# Altium integrated library TI Power Management Linear Regulator Single Channel LDO (0-350mA).IntLib: 1648 symbols (part 48 of 66)
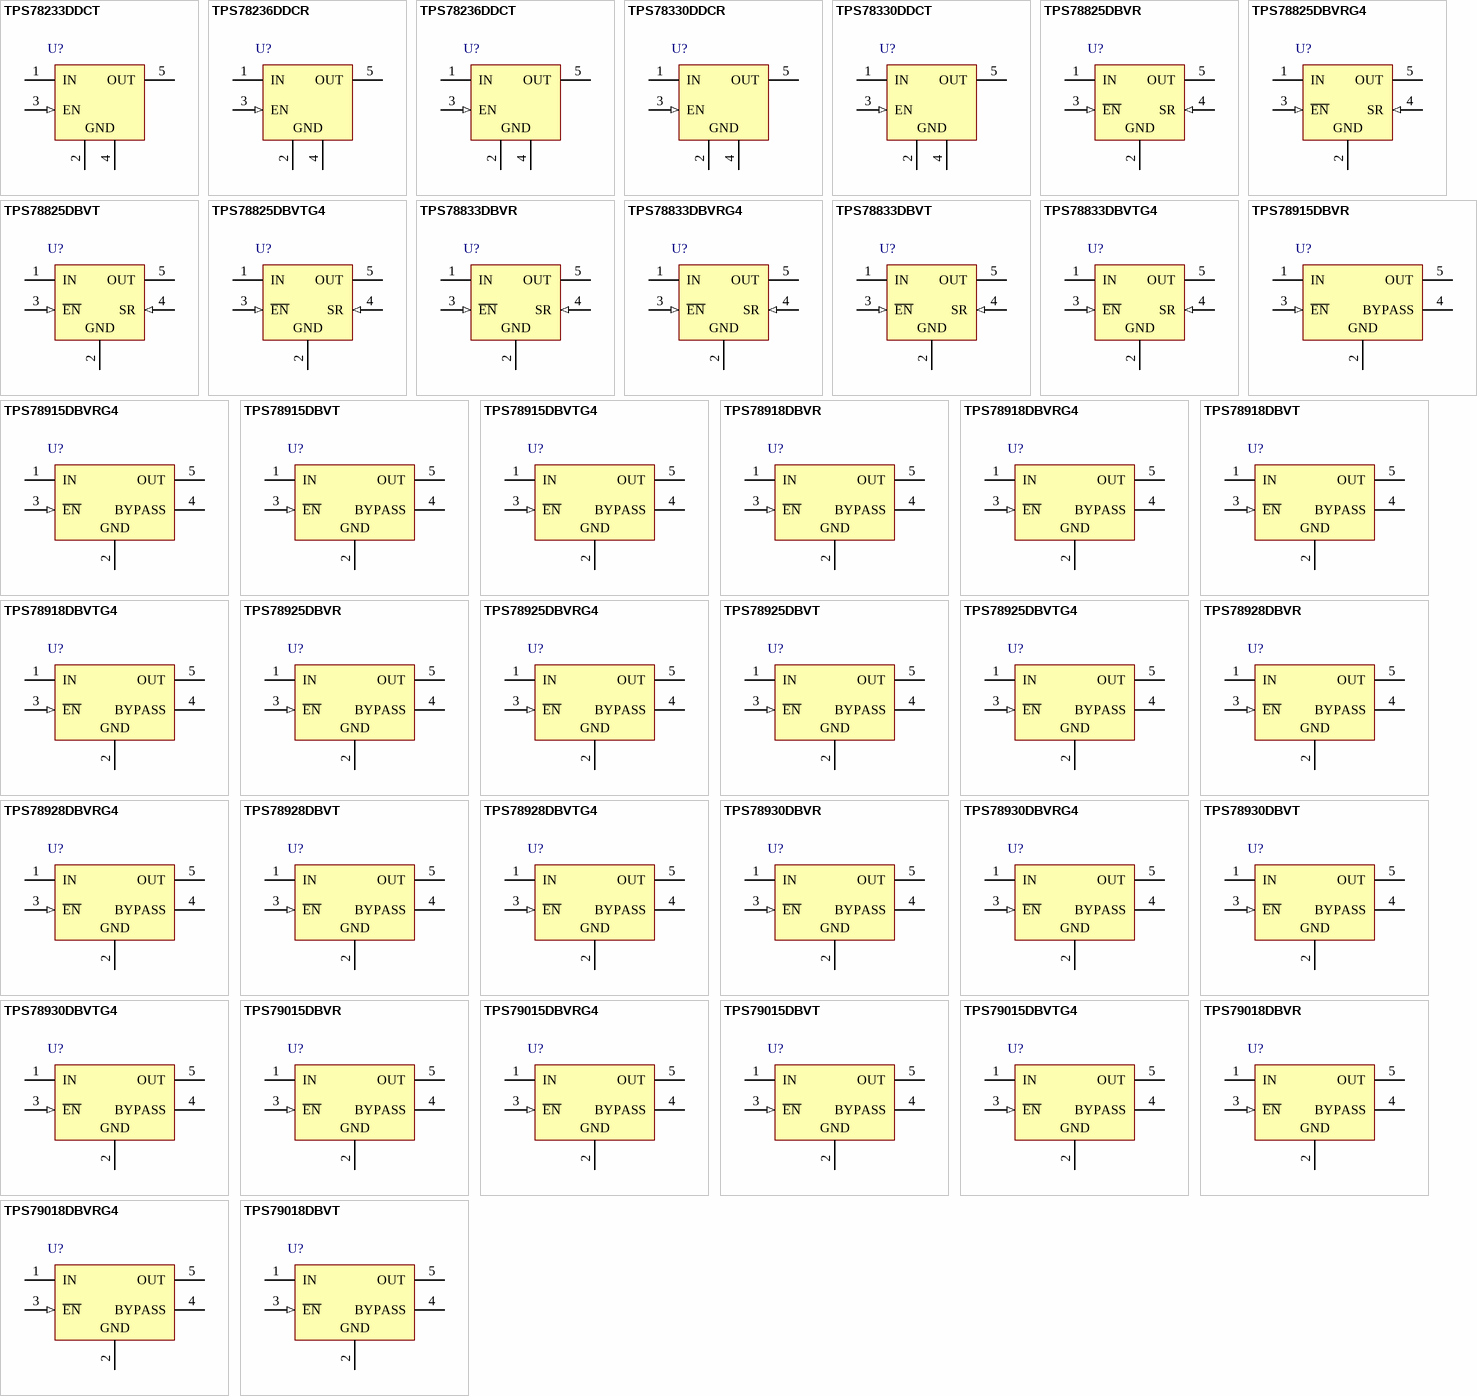
[diagram p89: symbols TPS78233DDCT to TPS79018DBVT]

## TPS78928DBVR
designator U?
Single Output Low Noise LDO, 100 mA, Fixed 2.8 V Output, 2.7 to 10 V Input, with Low IQ, 5-pin SOT-23 (DBV), -40 to 125 degC, Green (RoHS & no Sb/Br); Manufacturer: Texas Instruments; PartNumber: TPS78928DBVR; Fixed Output Options(V): 2.8; Iout(Max)(A): 0.1; Iq(Typ)(mA): 0.02; Rating: Catalog; SubFamily: Single Channel LDO; Vdo(Typ)(mV): 122; Vin(Max)(V): 10; Vin(Min)(V): 2.7; DatasheetVersion: SLVS300A; PackageVersion: 4073253-4/K; PackageReference: DBV5; PackageDescription: 5-Pin Plastic Small Outline, Body 1.60 × 2.90 mm, Pitch 0.95 mm; Supplier 1: Digi-Key; Supplier Part Number 1: 296-8149-2-ND; Supplier 2: Digi-Key; Supplier Part Number 2: 296-8149-1-ND; Supplier 3: Digi-Key; Supplier Part Number 3: 296-8149-6-ND; Supplier 4: Newark; Supplier Part Number 4: 77C1328; Supplier 5: Mouser; Supplier Part Number 5: 595-TPS78928DBVR; Eco-Plan: Green (RoHS & no Sb/Br); Vout Adj(Max)(V): 2.8; Vout Adj(Min)(V): 2.8; Mounting Technology: Surface Mount; Code_JEDEC: MO-178; ComponentLink1Description: Manufacturer URL; ComponentLink1URL: http://www.ti.com/; ComponentLink2Description: Datasheet; ComponentLink2URL: http://www.ti.com/general/docs/lit/getliterature.tsp?genericPartNumber=TPS78928&fileType=pdf; ComponentLink3Description: Package Specification; ComponentLink3URL: http://www.ti.com/litv/pdf/mpds018i
footprint TI-DBV5_N (SOT23, 5-Leads, Body 2.9x1.6mm, Pitch 0.95mm, IPC Medium Density)
footprint TI-DBV5_L (SOT23, 5-Leads, Body 2.9x1.6mm, Pitch 0.95mm, IPC High Density)
footprint TI-DBV5_M (SOT23, 5-Leads, Body 2.9x1.6mm, Pitch 0.95mm, IPC Low Density)
pins: 1 IN (power) "The IN terminal is the input to the device.", 2 GND (power) "Regulator ground", 3 ~{EN} (in) "The E\N\ terminal is an input which enables or shuts down the device. When E\N\ is a logic high, the device will be in shutdown mode. When E\N\ is a logic low, the device will be enabled.", 4 BYPASS "An external bypass capacitor, connected to this terminal, in conjunction with an internal resistor, creates a low-pass filter to further reduce regulator noise.", 5 OUT (power) "The OUT terminal is the regulated output of the device."

## TPS78928DBVRG4
designator U?
Single Output Low Noise LDO, 100 mA, Fixed 2.8 V Output, 2.7 to 10 V Input, with Low IQ, 5-pin SOT-23 (DBV), -40 to 125 degC, Green (RoHS & no Sb/Br); Manufacturer: Texas Instruments; PartNumber: TPS78928DBVRG4; Fixed Output Options(V): 2.8; Iout(Max)(A): 0.1; Iq(Typ)(mA): 0.02; Rating: Catalog; SubFamily: Single Channel LDO; Vdo(Typ)(mV): 122; Vin(Max)(V): 10; Vin(Min)(V): 2.7; DatasheetVersion: SLVS300A; PackageVersion: 4073253-4/K; PackageReference: DBV5; PackageDescription: 5-Pin Plastic Small Outline, Body 1.60 × 2.90 mm, Pitch 0.95 mm; Supplier 1: Digi-Key; Supplier Part Number 1: TPS78928DBVRG4-ND; Supplier 2: Newark; Supplier Part Number 2: 71J8285; Supplier 3: Mouser; Supplier Part Number 3: 595-TPS78928DBVRG4; Eco-Plan: Green (RoHS & no Sb/Br); Vout Adj(Max)(V): 2.8; Vout Adj(Min)(V): 2.8; Mounting Technology: Surface Mount; Code_JEDEC: MO-178; ComponentLink1Description: Manufacturer URL; ComponentLink1URL: http://www.ti.com/; ComponentLink2Description: Datasheet; ComponentLink2URL: http://www.ti.com/general/docs/lit/getliterature.tsp?genericPartNumber=TPS78928&fileType=pdf; ComponentLink3Description: Package Specification; ComponentLink3URL: http://www.ti.com/litv/pdf/mpds018i
footprint TI-DBV5_N (SOT23, 5-Leads, Body 2.9x1.6mm, Pitch 0.95mm, IPC Medium Density)
footprint TI-DBV5_L (SOT23, 5-Leads, Body 2.9x1.6mm, Pitch 0.95mm, IPC High Density)
footprint TI-DBV5_M (SOT23, 5-Leads, Body 2.9x1.6mm, Pitch 0.95mm, IPC Low Density)
pins: 1 IN (power) "The IN terminal is the input to the device.", 2 GND (power) "Regulator ground", 3 ~{EN} (in) "The E\N\ terminal is an input which enables or shuts down the device. When E\N\ is a logic high, the device will be in shutdown mode. When E\N\ is a logic low, the device will be enabled.", 4 BYPASS "An external bypass capacitor, connected to this terminal, in conjunction with an internal resistor, creates a low-pass filter to further reduce regulator noise.", 5 OUT (power) "The OUT terminal is the regulated output of the device."

## TPS78928DBVT
designator U?
Single Output Low Noise LDO, 100 mA, Fixed 2.8 V Output, 2.7 to 10 V Input, with Low IQ, 5-pin SOT-23 (DBV), -40 to 125 degC, Green (RoHS & no Sb/Br); Manufacturer: Texas Instruments; PartNumber: TPS78928DBVT; Fixed Output Options(V): 2.8; Iout(Max)(A): 0.1; Iq(Typ)(mA): 0.02; Rating: Catalog; SubFamily: Single Channel LDO; Vdo(Typ)(mV): 122; Vin(Max)(V): 10; Vin(Min)(V): 2.7; DatasheetVersion: SLVS300A; PackageVersion: 4073253-4/K; PackageReference: DBV5; PackageDescription: 5-Pin Plastic Small Outline, Body 1.60 × 2.90 mm, Pitch 0.95 mm; Supplier 1: Digi-Key; Supplier Part Number 1: 296-32573-2-ND; Supplier 2: Digi-Key; Supplier Part Number 2: 296-32573-1-ND; Supplier 3: Digi-Key; Supplier Part Number 3: 296-32573-6-ND; Supplier 4: Mouser; Supplier Part Number 4: 595-TPS78928DBVT; Eco-Plan: Green (RoHS & no Sb/Br); Vout Adj(Max)(V): 2.8; Vout Adj(Min)(V): 2.8; Mounting Technology: Surface Mount; Code_JEDEC: MO-178; ComponentLink1Description: Manufacturer URL; ComponentLink1URL: http://www.ti.com/; ComponentLink2Description: Datasheet; ComponentLink2URL: http://www.ti.com/general/docs/lit/getliterature.tsp?genericPartNumber=TPS78928&fileType=pdf; ComponentLink3Description: Package Specification; ComponentLink3URL: http://www.ti.com/litv/pdf/mpds018i
footprint TI-DBV5_N (SOT23, 5-Leads, Body 2.9x1.6mm, Pitch 0.95mm, IPC Medium Density)
footprint TI-DBV5_L (SOT23, 5-Leads, Body 2.9x1.6mm, Pitch 0.95mm, IPC High Density)
footprint TI-DBV5_M (SOT23, 5-Leads, Body 2.9x1.6mm, Pitch 0.95mm, IPC Low Density)
pins: 1 IN (power) "The IN terminal is the input to the device.", 2 GND (power) "Regulator ground", 3 ~{EN} (in) "The E\N\ terminal is an input which enables or shuts down the device. When E\N\ is a logic high, the device will be in shutdown mode. When E\N\ is a logic low, the device will be enabled.", 4 BYPASS "An external bypass capacitor, connected to this terminal, in conjunction with an internal resistor, creates a low-pass filter to further reduce regulator noise.", 5 OUT (power) "The OUT terminal is the regulated output of the device."

## TPS78928DBVTG4
designator U?
Single Output Low Noise LDO, 100 mA, Fixed 2.8 V Output, 2.7 to 10 V Input, with Low IQ, 5-pin SOT-23 (DBV), -40 to 125 degC, Green (RoHS & no Sb/Br); Manufacturer: Texas Instruments; PartNumber: TPS78928DBVTG4; Fixed Output Options(V): 2.8; Iout(Max)(A): 0.1; Iq(Typ)(mA): 0.02; Rating: Catalog; SubFamily: Single Channel LDO; Vdo(Typ)(mV): 122; Vin(Max)(V): 10; Vin(Min)(V): 2.7; DatasheetVersion: SLVS300A; PackageVersion: 4073253-4/K; PackageReference: DBV5; PackageDescription: 5-Pin Plastic Small Outline, Body 1.60 × 2.90 mm, Pitch 0.95 mm; Supplier 1: Digi-Key; Supplier Part Number 1: TPS78928DBVTG4-ND; Supplier 2: Mouser; Supplier Part Number 2: 595-TPS78928DBVTG4; Eco-Plan: Green (RoHS & no Sb/Br); Vout Adj(Max)(V): 2.8; Vout Adj(Min)(V): 2.8; Mounting Technology: Surface Mount; Code_JEDEC: MO-178; ComponentLink1Description: Manufacturer URL; ComponentLink1URL: http://www.ti.com/; ComponentLink2Description: Datasheet; ComponentLink2URL: http://www.ti.com/general/docs/lit/getliterature.tsp?genericPartNumber=TPS78928&fileType=pdf; ComponentLink3Description: Package Specification; ComponentLink3URL: http://www.ti.com/litv/pdf/mpds018i
footprint TI-DBV5_N (SOT23, 5-Leads, Body 2.9x1.6mm, Pitch 0.95mm, IPC Medium Density)
footprint TI-DBV5_L (SOT23, 5-Leads, Body 2.9x1.6mm, Pitch 0.95mm, IPC High Density)
footprint TI-DBV5_M (SOT23, 5-Leads, Body 2.9x1.6mm, Pitch 0.95mm, IPC Low Density)
pins: 1 IN (power) "The IN terminal is the input to the device.", 2 GND (power) "Regulator ground", 3 ~{EN} (in) "The E\N\ terminal is an input which enables or shuts down the device. When E\N\ is a logic high, the device will be in shutdown mode. When E\N\ is a logic low, the device will be enabled.", 4 BYPASS "An external bypass capacitor, connected to this terminal, in conjunction with an internal resistor, creates a low-pass filter to further reduce regulator noise.", 5 OUT (power) "The OUT terminal is the regulated output of the device."

## TPS78930DBVR
designator U?
Single Output Low Noise LDO, 100 mA, Fixed 3 V Output, 2.7 to 10 V Input, 5-pin SOT-23 (DBV), -40 to 125 degC, Green (RoHS & no Sb/Br); Manufacturer: Texas Instruments; PartNumber: TPS78930DBVR; Fixed Output Options(V): 3; Iout(Max)(A): 0.1; Iq(Typ)(mA): 0.02; Rating: Catalog; SubFamily: Single Channel LDO; Vdo(Typ)(mV): 115; Vin(Max)(V): 10; Vin(Min)(V): 2.7; DatasheetVersion: SLVS300A; PackageVersion: 4073253-4/K; PackageReference: DBV5; PackageDescription: 5-Pin Plastic Small Outline, Body 1.60 × 2.90 mm, Pitch 0.95 mm; Supplier 1: Digi-Key; Supplier Part Number 1: 296-8150-2-ND; Supplier 2: Digi-Key; Supplier Part Number 2: 296-8150-1-ND; Supplier 3: Digi-Key; Supplier Part Number 3: 296-8150-6-ND; Supplier 4: Newark; Supplier Part Number 4: 77C1330; Supplier 5: Mouser; Supplier Part Number 5: 595-TPS78930DBVR; Eco-Plan: Green (RoHS & no Sb/Br); Vout Adj(Max)(V): 3; Vout Adj(Min)(V): 3; Mounting Technology: Surface Mount; Code_JEDEC: MO-178; ComponentLink1Description: Manufacturer URL; ComponentLink1URL: http://www.ti.com/; ComponentLink2Description: Datasheet; ComponentLink2URL: http://www.ti.com/general/docs/lit/getliterature.tsp?genericPartNumber=TPS78930&fileType=pdf; ComponentLink3Description: Package Specification; ComponentLink3URL: http://www.ti.com/litv/pdf/mpds018i
footprint TI-DBV5_N (SOT23, 5-Leads, Body 2.9x1.6mm, Pitch 0.95mm, IPC Medium Density)
footprint TI-DBV5_L (SOT23, 5-Leads, Body 2.9x1.6mm, Pitch 0.95mm, IPC High Density)
footprint TI-DBV5_M (SOT23, 5-Leads, Body 2.9x1.6mm, Pitch 0.95mm, IPC Low Density)
pins: 1 IN (power) "The IN terminal is the input to the device.", 2 GND (power) "Regulator ground", 3 ~{EN} (in) "The E\N\ terminal is an input which enables or shuts down the device. When E\N\ is a logic high, the device will be in shutdown mode. When E\N\ is a logic low, the device will be enabled.", 4 BYPASS "An external bypass capacitor, connected to this terminal, in conjunction with an internal resistor, creates a low-pass filter to further reduce regulator noise.", 5 OUT (power) "The OUT terminal is the regulated output of the device."

## TPS78930DBVRG4
designator U?
Single Output Low Noise LDO, 100 mA, Fixed 3 V Output, 2.7 to 10 V Input, 5-pin SOT-23 (DBV), -40 to 125 degC, Green (RoHS & no Sb/Br); Manufacturer: Texas Instruments; PartNumber: TPS78930DBVRG4; Fixed Output Options(V): 3; Iout(Max)(A): 0.1; Iq(Typ)(mA): 0.02; Rating: Catalog; SubFamily: Single Channel LDO; Vdo(Typ)(mV): 115; Vin(Max)(V): 10; Vin(Min)(V): 2.7; DatasheetVersion: SLVS300A; PackageVersion: 4073253-4/K; PackageReference: DBV5; PackageDescription: 5-Pin Plastic Small Outline, Body 1.60 × 2.90 mm, Pitch 0.95 mm; Supplier 1: Digi-Key; Supplier Part Number 1: TPS78930DBVRG4-ND; Supplier 2: Mouser; Supplier Part Number 2: 595-TPS78930DBVRG4; Eco-Plan: Green (RoHS & no Sb/Br); Vout Adj(Max)(V): 3; Vout Adj(Min)(V): 3; Mounting Technology: Surface Mount; Code_JEDEC: MO-178; ComponentLink1Description: Manufacturer URL; ComponentLink1URL: http://www.ti.com/; ComponentLink2Description: Datasheet; ComponentLink2URL: http://www.ti.com/general/docs/lit/getliterature.tsp?genericPartNumber=TPS78930&fileType=pdf; ComponentLink3Description: Package Specification; ComponentLink3URL: http://www.ti.com/litv/pdf/mpds018i
footprint TI-DBV5_N (SOT23, 5-Leads, Body 2.9x1.6mm, Pitch 0.95mm, IPC Medium Density)
footprint TI-DBV5_L (SOT23, 5-Leads, Body 2.9x1.6mm, Pitch 0.95mm, IPC High Density)
footprint TI-DBV5_M (SOT23, 5-Leads, Body 2.9x1.6mm, Pitch 0.95mm, IPC Low Density)
pins: 1 IN (power) "The IN terminal is the input to the device.", 2 GND (power) "Regulator ground", 3 ~{EN} (in) "The E\N\ terminal is an input which enables or shuts down the device. When E\N\ is a logic high, the device will be in shutdown mode. When E\N\ is a logic low, the device will be enabled.", 4 BYPASS "An external bypass capacitor, connected to this terminal, in conjunction with an internal resistor, creates a low-pass filter to further reduce regulator noise.", 5 OUT (power) "The OUT terminal is the regulated output of the device."

## TPS78930DBVT
designator U?
Single Output Low Noise LDO, 100 mA, Fixed 3 V Output, 2.7 to 10 V Input, 5-pin SOT-23 (DBV), -40 to 125 degC, Green (RoHS & no Sb/Br); Manufacturer: Texas Instruments; PartNumber: TPS78930DBVT; Fixed Output Options(V): 3; Iout(Max)(A): 0.1; Iq(Typ)(mA): 0.02; Rating: Catalog; SubFamily: Single Channel LDO; Vdo(Typ)(mV): 115; Vin(Max)(V): 10; Vin(Min)(V): 2.7; DatasheetVersion: SLVS300A; PackageVersion: 4073253-4/K; PackageReference: DBV5; PackageDescription: 5-Pin Plastic Small Outline, Body 1.60 × 2.90 mm, Pitch 0.95 mm; Supplier 1: Digi-Key; Supplier Part Number 1: 296-27093-2-ND; Supplier 2: Digi-Key; Supplier Part Number 2: 296-27093-1-ND; Supplier 3: Digi-Key; Supplier Part Number 3: 296-27093-6-ND; Supplier 4: Farnell; Supplier Part Number 4: 8461732RL; Supplier 5: Farnell; Supplier Part Number 5: 8461732; Supplier 6: Newark; Supplier Part Number 6: 38K8855; Supplier 7: Newark; Supplier Part Number 7: 77C1331; Supplier 8: Mouser; Supplier Part Number 8: 595-TPS78930DBVT; Eco-Plan: Green (RoHS & no Sb/Br); Vout Adj(Max)(V): 3; Vout Adj(Min)(V): 3; Mounting Technology: Surface Mount; Code_JEDEC: MO-178; ComponentLink1Description: Manufacturer URL; ComponentLink1URL: http://www.ti.com/; ComponentLink2Description: Datasheet; ComponentLink2URL: http://www.ti.com/general/docs/lit/getliterature.tsp?genericPartNumber=TPS78930&fileType=pdf; ComponentLink3Description: Package Specification; ComponentLink3URL: http://www.ti.com/litv/pdf/mpds018i
footprint TI-DBV5_N (SOT23, 5-Leads, Body 2.9x1.6mm, Pitch 0.95mm, IPC Medium Density)
footprint TI-DBV5_L (SOT23, 5-Leads, Body 2.9x1.6mm, Pitch 0.95mm, IPC High Density)
footprint TI-DBV5_M (SOT23, 5-Leads, Body 2.9x1.6mm, Pitch 0.95mm, IPC Low Density)
pins: 1 IN (power) "The IN terminal is the input to the device.", 2 GND (power) "Regulator ground", 3 ~{EN} (in) "The E\N\ terminal is an input which enables or shuts down the device. When E\N\ is a logic high, the device will be in shutdown mode. When E\N\ is a logic low, the device will be enabled.", 4 BYPASS "An external bypass capacitor, connected to this terminal, in conjunction with an internal resistor, creates a low-pass filter to further reduce regulator noise.", 5 OUT (power) "The OUT terminal is the regulated output of the device."

## TPS78930DBVTG4
designator U?
Single Output Low Noise LDO, 100 mA, Fixed 3 V Output, 2.7 to 10 V Input, 5-pin SOT-23 (DBV), -40 to 125 degC, Green (RoHS & no Sb/Br); Manufacturer: Texas Instruments; PartNumber: TPS78930DBVTG4; Fixed Output Options(V): 3; Iout(Max)(A): 0.1; Iq(Typ)(mA): 0.02; Rating: Catalog; SubFamily: Single Channel LDO; Vdo(Typ)(mV): 115; Vin(Max)(V): 10; Vin(Min)(V): 2.7; DatasheetVersion: SLVS300A; PackageVersion: 4073253-4/K; PackageReference: DBV5; PackageDescription: 5-Pin Plastic Small Outline, Body 1.60 × 2.90 mm, Pitch 0.95 mm; Supplier 1: Digi-Key; Supplier Part Number 1: TPS78930DBVTG4-ND; Supplier 2: Mouser; Supplier Part Number 2: 595-TPS78930DBVTG4; Eco-Plan: Green (RoHS & no Sb/Br); Vout Adj(Max)(V): 3; Vout Adj(Min)(V): 3; Mounting Technology: Surface Mount; Code_JEDEC: MO-178; ComponentLink1Description: Manufacturer URL; ComponentLink1URL: http://www.ti.com/; ComponentLink2Description: Datasheet; ComponentLink2URL: http://www.ti.com/general/docs/lit/getliterature.tsp?genericPartNumber=TPS78930&fileType=pdf; ComponentLink3Description: Package Specification; ComponentLink3URL: http://www.ti.com/litv/pdf/mpds018i
footprint TI-DBV5_N (SOT23, 5-Leads, Body 2.9x1.6mm, Pitch 0.95mm, IPC Medium Density)
footprint TI-DBV5_L (SOT23, 5-Leads, Body 2.9x1.6mm, Pitch 0.95mm, IPC High Density)
footprint TI-DBV5_M (SOT23, 5-Leads, Body 2.9x1.6mm, Pitch 0.95mm, IPC Low Density)
pins: 1 IN (power) "The IN terminal is the input to the device.", 2 GND (power) "Regulator ground", 3 ~{EN} (in) "The E\N\ terminal is an input which enables or shuts down the device. When E\N\ is a logic high, the device will be in shutdown mode. When E\N\ is a logic low, the device will be enabled.", 4 BYPASS "An external bypass capacitor, connected to this terminal, in conjunction with an internal resistor, creates a low-pass filter to further reduce regulator noise.", 5 OUT (power) "The OUT terminal is the regulated output of the device."

## TPS79015DBVR
designator U?
Single Output Low Noise LDO, 50 mA, Fixed 1.5 V Output, 2.7 to 10 V Input, with Low IQ, 5-pin SOT-23 (DBV), -40 to 125 degC, Green (RoHS & no Sb/Br); Manufacturer: Texas Instruments; PartNumber: TPS79015DBVR; Fixed Output Options(V): 1.5; Iout(Max)(A): 0.05; Iq(Typ)(mA): 0.02; Rating: Catalog; SubFamily: Single Channel LDO; Vdo(Typ)(mV): 57; Vin(Max)(V): 10; Vin(Min)(V): 2.7; DatasheetVersion: SLVS299B; PackageVersion: 4073253-4/K; PackageReference: DBV5; PackageDescription: 5-Pin Plastic Small Outline, Body 1.60 × 2.90 mm, Pitch 0.95 mm; Supplier 1: Digi-Key; Supplier Part Number 1: 296-8151-2-ND; Supplier 2: Digi-Key; Supplier Part Number 2: 296-8151-1-ND; Supplier 3: Digi-Key; Supplier Part Number 3: 296-8151-6-ND; Supplier 4: Mouser; Supplier Part Number 4: 595-TPS79015DBVR; Eco-Plan: Green (RoHS & no Sb/Br); Vout Adj(Max)(V): 1.5; Vout Adj(Min)(V): 1.5; Mounting Technology: Surface Mount; Code_JEDEC: MO-178; ComponentLink1Description: Manufacturer URL; ComponentLink1URL: http://www.ti.com/; ComponentLink2Description: Datasheet; ComponentLink2URL: http://www.ti.com/general/docs/lit/getliterature.tsp?genericPartNumber=TPS79015&fileType=pdf; ComponentLink3Description: Package Specification; ComponentLink3URL: http://www.ti.com/litv/pdf/mpds018i; ComponentLink4Description: URL Link1; ComponentLink4URL: Samples URL:http://www.ti.com/product/tps79015#samples
footprint TI-DBV5_N (SOT23, 5-Leads, Body 2.9x1.6mm, Pitch 0.95mm, IPC Medium Density)
footprint TI-DBV5_L (SOT23, 5-Leads, Body 2.9x1.6mm, Pitch 0.95mm, IPC High Density)
footprint TI-DBV5_M (SOT23, 5-Leads, Body 2.9x1.6mm, Pitch 0.95mm, IPC Low Density)
pins: 1 IN (power) "The IN terminal is the input to the device.", 2 GND (power) "Regulator ground", 3 ~{EN} (in) "The E\N\ terminal is an input which enables or shuts down the device. When E\N\ is a logic high, the device will be in shutdown mode. When E\N\ is a logic low, the device will be enabled.", 4 BYPASS "An external bypass capacitor, connected to this terminal, in conjunction with an internal resistor, creates a low-pass filter to further reduce regulator noise.", 5 OUT (power) "The OUT terminal is the regulated output of the device."

## TPS79015DBVRG4
designator U?
Single Output Low Noise LDO, 50 mA, Fixed 1.5 V Output, 2.7 to 10 V Input, with Low IQ, 5-pin SOT-23 (DBV), -40 to 125 degC, Green (RoHS & no Sb/Br); Manufacturer: Texas Instruments; PartNumber: TPS79015DBVRG4; Fixed Output Options(V): 1.5; Iout(Max)(A): 0.05; Iq(Typ)(mA): 0.02; Rating: Catalog; SubFamily: Single Channel LDO; Vdo(Typ)(mV): 57; Vin(Max)(V): 10; Vin(Min)(V): 2.7; DatasheetVersion: SLVS299B; PackageVersion: 4073253-4/K; PackageReference: DBV5; PackageDescription: 5-Pin Plastic Small Outline, Body 1.60 × 2.90 mm, Pitch 0.95 mm; Supplier 1: Digi-Key; Supplier Part Number 1: TPS79015DBVRG4-ND; Supplier 2: Mouser; Supplier Part Number 2: 595-TPS79015DBVRG4; Eco-Plan: Green (RoHS & no Sb/Br); Vout Adj(Max)(V): 1.5; Vout Adj(Min)(V): 1.5; Mounting Technology: Surface Mount; Code_JEDEC: MO-178; ComponentLink1Description: Manufacturer URL; ComponentLink1URL: http://www.ti.com/; ComponentLink2Description: Datasheet; ComponentLink2URL: http://www.ti.com/general/docs/lit/getliterature.tsp?genericPartNumber=TPS79015&fileType=pdf; ComponentLink3Description: Package Specification; ComponentLink3URL: http://www.ti.com/litv/pdf/mpds018i; ComponentLink4Description: URL Link1; ComponentLink4URL: Samples URL:http://www.ti.com/product/tps79015#samples
footprint TI-DBV5_N (SOT23, 5-Leads, Body 2.9x1.6mm, Pitch 0.95mm, IPC Medium Density)
footprint TI-DBV5_L (SOT23, 5-Leads, Body 2.9x1.6mm, Pitch 0.95mm, IPC High Density)
footprint TI-DBV5_M (SOT23, 5-Leads, Body 2.9x1.6mm, Pitch 0.95mm, IPC Low Density)
pins: 1 IN (power) "The IN terminal is the input to the device.", 2 GND (power) "Regulator ground", 3 ~{EN} (in) "The E\N\ terminal is an input which enables or shuts down the device. When E\N\ is a logic high, the device will be in shutdown mode. When E\N\ is a logic low, the device will be enabled.", 4 BYPASS "An external bypass capacitor, connected to this terminal, in conjunction with an internal resistor, creates a low-pass filter to further reduce regulator noise.", 5 OUT (power) "The OUT terminal is the regulated output of the device."

## TPS79015DBVT
designator U?
Single Output Low Noise LDO, 50 mA, Fixed 1.5 V Output, 2.7 to 10 V Input, with Low IQ, 5-pin SOT-23 (DBV), -40 to 125 degC, Green (RoHS & no Sb/Br); Manufacturer: Texas Instruments; PartNumber: TPS79015DBVT; Fixed Output Options(V): 1.5; Iout(Max)(A): 0.05; Iq(Typ)(mA): 0.02; Rating: Catalog; SubFamily: Single Channel LDO; Vdo(Typ)(mV): 57; Vin(Max)(V): 10; Vin(Min)(V): 2.7; DatasheetVersion: SLVS299B; PackageVersion: 4073253-4/K; PackageReference: DBV5; PackageDescription: 5-Pin Plastic Small Outline, Body 1.60 × 2.90 mm, Pitch 0.95 mm; Supplier 1: Digi-Key; Supplier Part Number 1: TPS79015DBVT-ND; Supplier 2: Mouser; Supplier Part Number 2: 595-TPS79015DBVT; Eco-Plan: Green (RoHS & no Sb/Br); Vout Adj(Max)(V): 1.5; Vout Adj(Min)(V): 1.5; Mounting Technology: Surface Mount; Code_JEDEC: MO-178; ComponentLink1Description: Manufacturer URL; ComponentLink1URL: http://www.ti.com/; ComponentLink2Description: Datasheet; ComponentLink2URL: http://www.ti.com/general/docs/lit/getliterature.tsp?genericPartNumber=TPS79015&fileType=pdf; ComponentLink3Description: Package Specification; ComponentLink3URL: http://www.ti.com/litv/pdf/mpds018i; ComponentLink4Description: URL Link1; ComponentLink4URL: Samples URL:http://www.ti.com/product/tps79015#samples
footprint TI-DBV5_N (SOT23, 5-Leads, Body 2.9x1.6mm, Pitch 0.95mm, IPC Medium Density)
footprint TI-DBV5_L (SOT23, 5-Leads, Body 2.9x1.6mm, Pitch 0.95mm, IPC High Density)
footprint TI-DBV5_M (SOT23, 5-Leads, Body 2.9x1.6mm, Pitch 0.95mm, IPC Low Density)
pins: 1 IN (power) "The IN terminal is the input to the device.", 2 GND (power) "Regulator ground", 3 ~{EN} (in) "The E\N\ terminal is an input which enables or shuts down the device. When E\N\ is a logic high, the device will be in shutdown mode. When E\N\ is a logic low, the device will be enabled.", 4 BYPASS "An external bypass capacitor, connected to this terminal, in conjunction with an internal resistor, creates a low-pass filter to further reduce regulator noise.", 5 OUT (power) "The OUT terminal is the regulated output of the device."

## TPS79015DBVTG4
designator U?
Single Output Low Noise LDO, 50 mA, Fixed 1.5 V Output, 2.7 to 10 V Input, with Low IQ, 5-pin SOT-23 (DBV), -40 to 125 degC, Green (RoHS & no Sb/Br); Manufacturer: Texas Instruments; PartNumber: TPS79015DBVTG4; Fixed Output Options(V): 1.5; Iout(Max)(A): 0.05; Iq(Typ)(mA): 0.02; Rating: Catalog; SubFamily: Single Channel LDO; Vdo(Typ)(mV): 57; Vin(Max)(V): 10; Vin(Min)(V): 2.7; DatasheetVersion: SLVS299B; PackageVersion: 4073253-4/K; PackageReference: DBV5; PackageDescription: 5-Pin Plastic Small Outline, Body 1.60 × 2.90 mm, Pitch 0.95 mm; Supplier 1: Digi-Key; Supplier Part Number 1: TPS79015DBVTG4-ND; Supplier 2: Mouser; Supplier Part Number 2: 595-TPS79015DBVTG4; Eco-Plan: Green (RoHS & no Sb/Br); Vout Adj(Max)(V): 1.5; Vout Adj(Min)(V): 1.5; Mounting Technology: Surface Mount; Code_JEDEC: MO-178; ComponentLink1Description: Manufacturer URL; ComponentLink1URL: http://www.ti.com/; ComponentLink2Description: Datasheet; ComponentLink2URL: http://www.ti.com/general/docs/lit/getliterature.tsp?genericPartNumber=TPS79015&fileType=pdf; ComponentLink3Description: Package Specification; ComponentLink3URL: http://www.ti.com/litv/pdf/mpds018i; ComponentLink4Description: URL Link1; ComponentLink4URL: Samples URL:http://www.ti.com/product/tps79015#samples
footprint TI-DBV5_N (SOT23, 5-Leads, Body 2.9x1.6mm, Pitch 0.95mm, IPC Medium Density)
footprint TI-DBV5_L (SOT23, 5-Leads, Body 2.9x1.6mm, Pitch 0.95mm, IPC High Density)
footprint TI-DBV5_M (SOT23, 5-Leads, Body 2.9x1.6mm, Pitch 0.95mm, IPC Low Density)
pins: 1 IN (power) "The IN terminal is the input to the device.", 2 GND (power) "Regulator ground", 3 ~{EN} (in) "The E\N\ terminal is an input which enables or shuts down the device. When E\N\ is a logic high, the device will be in shutdown mode. When E\N\ is a logic low, the device will be enabled.", 4 BYPASS "An external bypass capacitor, connected to this terminal, in conjunction with an internal resistor, creates a low-pass filter to further reduce regulator noise.", 5 OUT (power) "The OUT terminal is the regulated output of the device."

## TPS79018DBVR
designator U?
Single Output Low Noise LDO, 50 mA, Fixed 1.8 V Output, 2.7 to 10 V Input, with Low IQ, 5-pin SOT-23 (DBV), -40 to 125 degC, Green (RoHS & no Sb/Br); Manufacturer: Texas Instruments; PartNumber: TPS79018DBVR; Fixed Output Options(V): 1.8; Iout(Max)(A): 0.05; Iq(Typ)(mA): 0.02; Rating: Catalog; SubFamily: Single Channel LDO; Vdo(Typ)(mV): 57; Vin(Max)(V): 10; Vin(Min)(V): 2.7; DatasheetVersion: SLVS299B; PackageVersion: 4073253-4/K; PackageReference: DBV5; PackageDescription: 5-Pin Plastic Small Outline, Body 1.60 × 2.90 mm, Pitch 0.95 mm; Supplier 1: Digi-Key; Supplier Part Number 1: 296-8152-2-ND; Supplier 2: Digi-Key; Supplier Part Number 2: 296-8152-1-ND; Supplier 3: Digi-Key; Supplier Part Number 3: 296-8152-6-ND; Supplier 4: Newark; Supplier Part Number 4: 77C1334; Supplier 5: Mouser; Supplier Part Number 5: 595-TPS79018DBVR; Eco-Plan: Green (RoHS & no Sb/Br); Vout Adj(Max)(V): 1.8; Vout Adj(Min)(V): 1.8; Mounting Technology: Surface Mount; Code_JEDEC: MO-178; ComponentLink1Description: Manufacturer URL; ComponentLink1URL: http://www.ti.com/; ComponentLink2Description: Datasheet; ComponentLink2URL: http://www.ti.com/general/docs/lit/getliterature.tsp?genericPartNumber=TPS79018&fileType=pdf; ComponentLink3Description: Package Specification; ComponentLink3URL: http://www.ti.com/litv/pdf/mpds018i; ComponentLink4Description: URL Link1; ComponentLink4URL: Samples URL:http://www.ti.com/product/tps79018#samples
footprint TI-DBV5_N (SOT23, 5-Leads, Body 2.9x1.6mm, Pitch 0.95mm, IPC Medium Density)
footprint TI-DBV5_L (SOT23, 5-Leads, Body 2.9x1.6mm, Pitch 0.95mm, IPC High Density)
footprint TI-DBV5_M (SOT23, 5-Leads, Body 2.9x1.6mm, Pitch 0.95mm, IPC Low Density)
pins: 1 IN (power) "The IN terminal is the input to the device.", 2 GND (power) "Regulator ground", 3 ~{EN} (in) "The E\N\ terminal is an input which enables or shuts down the device. When E\N\ is a logic high, the device will be in shutdown mode. When E\N\ is a logic low, the device will be enabled.", 4 BYPASS "An external bypass capacitor, connected to this terminal, in conjunction with an internal resistor, creates a low-pass filter to further reduce regulator noise.", 5 OUT (power) "The OUT terminal is the regulated output of the device."

## TPS79018DBVRG4
designator U?
Single Output Low Noise LDO, 50 mA, Fixed 1.8 V Output, 2.7 to 10 V Input, with Low IQ, 5-pin SOT-23 (DBV), -40 to 125 degC, Green (RoHS & no Sb/Br); Manufacturer: Texas Instruments; PartNumber: TPS79018DBVRG4; Fixed Output Options(V): 1.8; Iout(Max)(A): 0.05; Iq(Typ)(mA): 0.02; Rating: Catalog; SubFamily: Single Channel LDO; Vdo(Typ)(mV): 57; Vin(Max)(V): 10; Vin(Min)(V): 2.7; DatasheetVersion: SLVS299B; PackageVersion: 4073253-4/K; PackageReference: DBV5; PackageDescription: 5-Pin Plastic Small Outline, Body 1.60 × 2.90 mm, Pitch 0.95 mm; Supplier 1: Digi-Key; Supplier Part Number 1: TPS79018DBVRG4-ND; Supplier 2: Newark; Supplier Part Number 2: 24K6213; Supplier 3: Mouser; Supplier Part Number 3: 595-TPS79018DBVRG4; Eco-Plan: Green (RoHS & no Sb/Br); Vout Adj(Max)(V): 1.8; Vout Adj(Min)(V): 1.8; Mounting Technology: Surface Mount; Code_JEDEC: MO-178; ComponentLink1Description: Manufacturer URL; ComponentLink1URL: http://www.ti.com/; ComponentLink2Description: Datasheet; ComponentLink2URL: http://www.ti.com/general/docs/lit/getliterature.tsp?genericPartNumber=TPS79018&fileType=pdf; ComponentLink3Description: Package Specification; ComponentLink3URL: http://www.ti.com/litv/pdf/mpds018i; ComponentLink4Description: URL Link1; ComponentLink4URL: Samples URL:http://www.ti.com/product/tps79018#samples
footprint TI-DBV5_N (SOT23, 5-Leads, Body 2.9x1.6mm, Pitch 0.95mm, IPC Medium Density)
footprint TI-DBV5_L (SOT23, 5-Leads, Body 2.9x1.6mm, Pitch 0.95mm, IPC High Density)
footprint TI-DBV5_M (SOT23, 5-Leads, Body 2.9x1.6mm, Pitch 0.95mm, IPC Low Density)
pins: 1 IN (power) "The IN terminal is the input to the device.", 2 GND (power) "Regulator ground", 3 ~{EN} (in) "The E\N\ terminal is an input which enables or shuts down the device. When E\N\ is a logic high, the device will be in shutdown mode. When E\N\ is a logic low, the device will be enabled.", 4 BYPASS "An external bypass capacitor, connected to this terminal, in conjunction with an internal resistor, creates a low-pass filter to further reduce regulator noise.", 5 OUT (power) "The OUT terminal is the regulated output of the device."

## TPS79018DBVT
designator U?
Single Output Low Noise LDO, 50 mA, Fixed 1.8 V Output, 2.7 to 10 V Input, with Low IQ, 5-pin SOT-23 (DBV), -40 to 125 degC, Green (RoHS & no Sb/Br); Manufacturer: Texas Instruments; PartNumber: TPS79018DBVT; Fixed Output Options(V): 1.8; Iout(Max)(A): 0.05; Iq(Typ)(mA): 0.02; Rating: Catalog; SubFamily: Single Channel LDO; Vdo(Typ)(mV): 57; Vin(Max)(V): 10; Vin(Min)(V): 2.7; DatasheetVersion: SLVS299B; PackageVersion: 4073253-4/K; PackageReference: DBV5; PackageDescription: 5-Pin Plastic Small Outline, Body 1.60 × 2.90 mm, Pitch 0.95 mm; Supplier 1: Digi-Key; Supplier Part Number 1: 296-32574-2-ND; Supplier 2: Digi-Key; Supplier Part Number 2: 296-32574-1-ND; Supplier 3: Digi-Key; Supplier Part Number 3: 296-32574-6-ND; Supplier 4: Newark; Supplier Part Number 4: 77C1335; Supplier 5: Mouser; Supplier Part Number 5: 595-TPS79018DBVT; Eco-Plan: Green (RoHS & no Sb/Br); Vout Adj(Max)(V): 1.8; Vout Adj(Min)(V): 1.8; Mounting Technology: Surface Mount; Code_JEDEC: MO-178; ComponentLink1Description: Manufacturer URL; ComponentLink1URL: http://www.ti.com/; ComponentLink2Description: Datasheet; ComponentLink2URL: http://www.ti.com/general/docs/lit/getliterature.tsp?genericPartNumber=TPS79018&fileType=pdf; ComponentLink3Description: Package Specification; ComponentLink3URL: http://www.ti.com/litv/pdf/mpds018i; ComponentLink4Description: URL Link1; ComponentLink4URL: Samples URL:http://www.ti.com/product/tps79018#samples
footprint TI-DBV5_N (SOT23, 5-Leads, Body 2.9x1.6mm, Pitch 0.95mm, IPC Medium Density)
footprint TI-DBV5_L (SOT23, 5-Leads, Body 2.9x1.6mm, Pitch 0.95mm, IPC High Density)
footprint TI-DBV5_M (SOT23, 5-Leads, Body 2.9x1.6mm, Pitch 0.95mm, IPC Low Density)
pins: 1 IN (power) "The IN terminal is the input to the device.", 2 GND (power) "Regulator ground", 3 ~{EN} (in) "The E\N\ terminal is an input which enables or shuts down the device. When E\N\ is a logic high, the device will be in shutdown mode. When E\N\ is a logic low, the device will be enabled.", 4 BYPASS "An external bypass capacitor, connected to this terminal, in conjunction with an internal resistor, creates a low-pass filter to further reduce regulator noise.", 5 OUT (power) "The OUT terminal is the regulated output of the device."

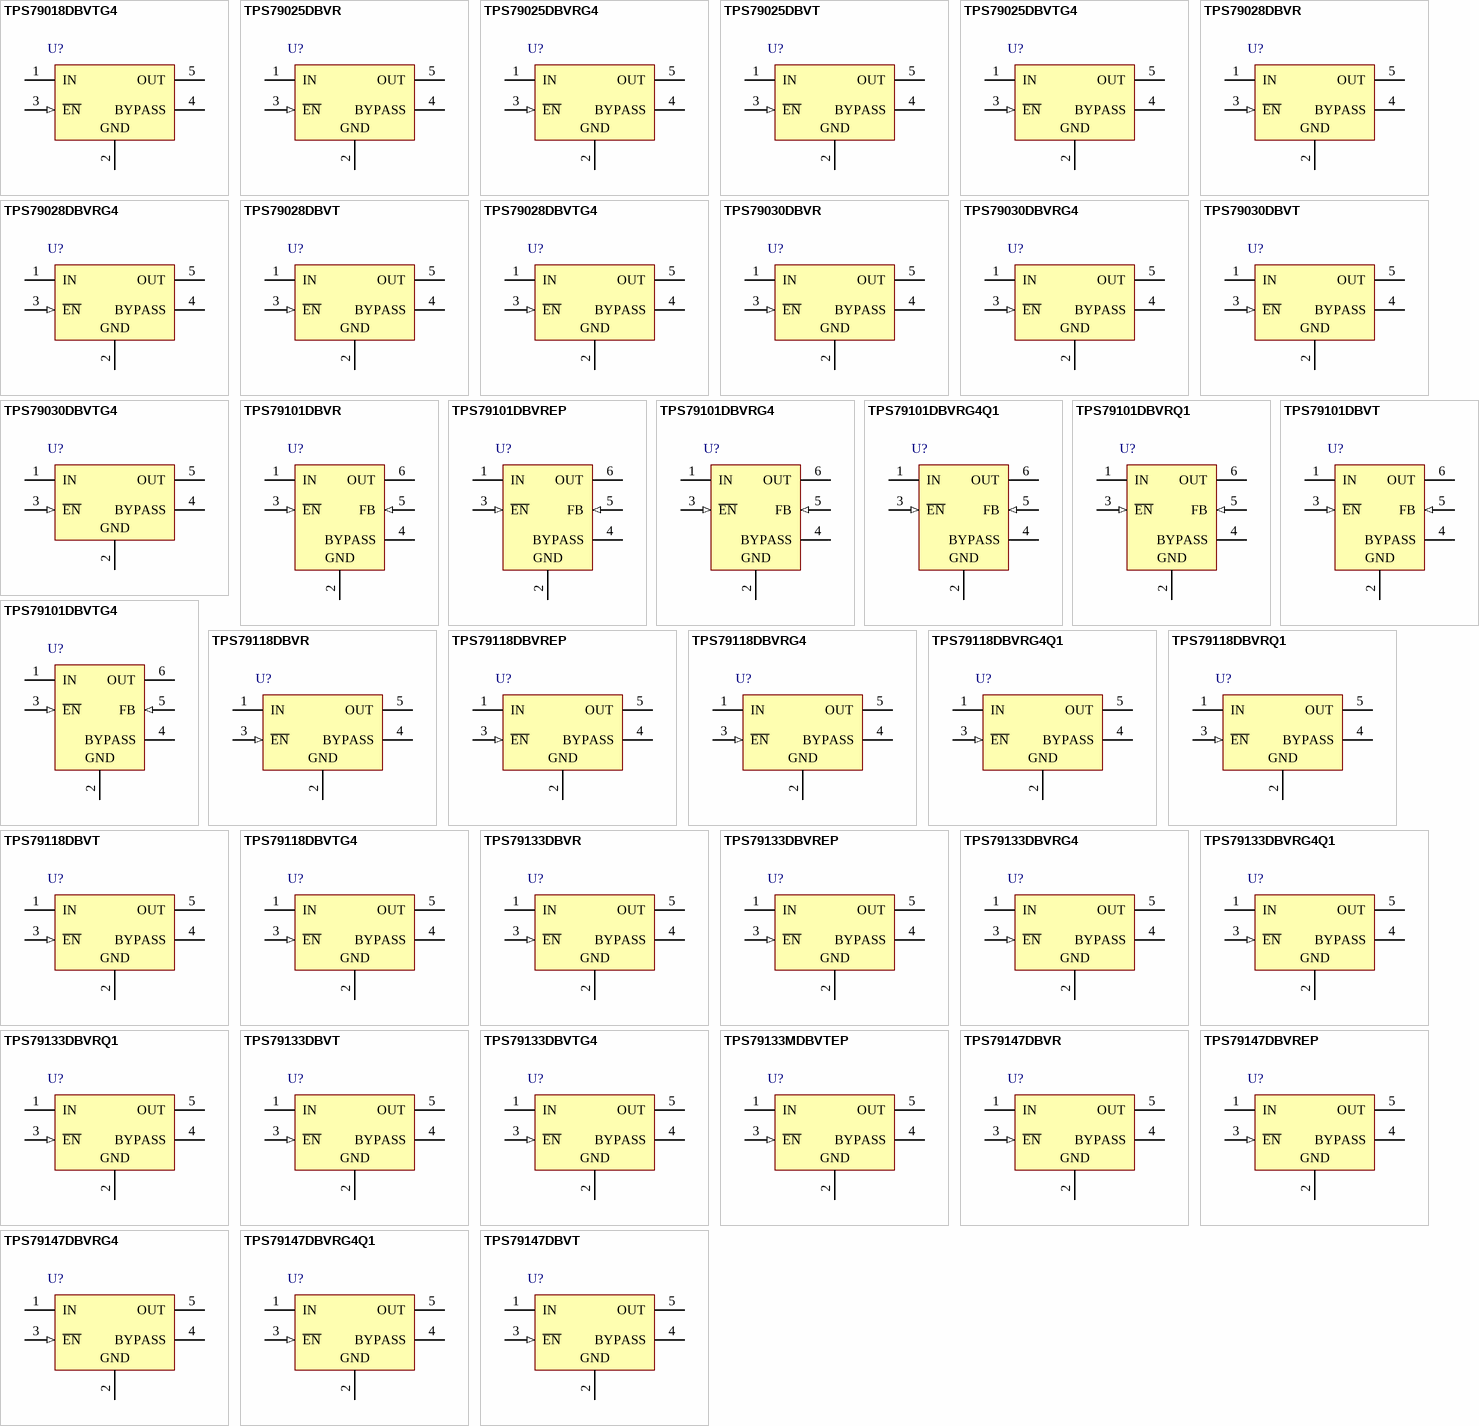
[diagram p32: symbols TPS79018DBVTG4 to TPS79147DBVT]

## TPS79018DBVTG4
designator U?
Single Output Low Noise LDO, 50 mA, Fixed 1.8 V Output, 2.7 to 10 V Input, with Low IQ, 5-pin SOT-23 (DBV), -40 to 125 degC, Green (RoHS & no Sb/Br); Manufacturer: Texas Instruments; PartNumber: TPS79018DBVTG4; Fixed Output Options(V): 1.8; Iout(Max)(A): 0.05; Iq(Typ)(mA): 0.02; Rating: Catalog; SubFamily: Single Channel LDO; Vdo(Typ)(mV): 57; Vin(Max)(V): 10; Vin(Min)(V): 2.7; DatasheetVersion: SLVS299B; PackageVersion: 4073253-4/K; PackageReference: DBV5; PackageDescription: 5-Pin Plastic Small Outline, Body 1.60 × 2.90 mm, Pitch 0.95 mm; Supplier 1: Digi-Key; Supplier Part Number 1: TPS79018DBVTG4-ND; Supplier 2: Mouser; Supplier Part Number 2: 595-TPS79018DBVTG4; Eco-Plan: Green (RoHS & no Sb/Br); Vout Adj(Max)(V): 1.8; Vout Adj(Min)(V): 1.8; Mounting Technology: Surface Mount; Code_JEDEC: MO-178; ComponentLink1Description: Manufacturer URL; ComponentLink1URL: http://www.ti.com/; ComponentLink2Description: Datasheet; ComponentLink2URL: http://www.ti.com/general/docs/lit/getliterature.tsp?genericPartNumber=TPS79018&fileType=pdf; ComponentLink3Description: Package Specification; ComponentLink3URL: http://www.ti.com/litv/pdf/mpds018i; ComponentLink4Description: URL Link1; ComponentLink4URL: Samples URL:http://www.ti.com/product/tps79018#samples
footprint TI-DBV5_N (SOT23, 5-Leads, Body 2.9x1.6mm, Pitch 0.95mm, IPC Medium Density)
footprint TI-DBV5_L (SOT23, 5-Leads, Body 2.9x1.6mm, Pitch 0.95mm, IPC High Density)
footprint TI-DBV5_M (SOT23, 5-Leads, Body 2.9x1.6mm, Pitch 0.95mm, IPC Low Density)
pins: 1 IN (power) "The IN terminal is the input to the device.", 2 GND (power) "Regulator ground", 3 ~{EN} (in) "The E\N\ terminal is an input which enables or shuts down the device. When E\N\ is a logic high, the device will be in shutdown mode. When E\N\ is a logic low, the device will be enabled.", 4 BYPASS "An external bypass capacitor, connected to this terminal, in conjunction with an internal resistor, creates a low-pass filter to further reduce regulator noise.", 5 OUT (power) "The OUT terminal is the regulated output of the device."

## TPS79025DBVR
designator U?
Single Output Low Noise LDO, 50 mA, Fixed 2.5 V Output, 2.7 to 10 V Input, with Low IQ, 5-pin SOT-23 (DBV), -40 to 125 degC, Green (RoHS & no Sb/Br); Manufacturer: Texas Instruments; PartNumber: TPS79025DBVR; Fixed Output Options(V): 2.5; Iout(Max)(A): 0.05; Iq(Typ)(mA): 0.02; Rating: Catalog; SubFamily: Single Channel LDO; Vdo(Typ)(mV): 57; Vin(Max)(V): 10; Vin(Min)(V): 2.7; DatasheetVersion: SLVS299B; PackageVersion: 4073253-4/K; PackageReference: DBV5; PackageDescription: 5-Pin Plastic Small Outline, Body 1.60 × 2.90 mm, Pitch 0.95 mm; Supplier 1: Digi-Key; Supplier Part Number 1: 296-8153-2-ND; Supplier 2: Digi-Key; Supplier Part Number 2: 296-8153-1-ND; Supplier 3: Digi-Key; Supplier Part Number 3: 296-8153-6-ND; Supplier 4: Newark; Supplier Part Number 4: 77C1336; Supplier 5: Mouser; Supplier Part Number 5: 595-TPS79025DBVR; Eco-Plan: Green (RoHS & no Sb/Br); Vout Adj(Max)(V): 2.5; Vout Adj(Min)(V): 2.5; Mounting Technology: Surface Mount; Code_JEDEC: MO-178; ComponentLink1Description: Manufacturer URL; ComponentLink1URL: http://www.ti.com/; ComponentLink2Description: Datasheet; ComponentLink2URL: http://www.ti.com/general/docs/lit/getliterature.tsp?genericPartNumber=TPS79025&fileType=pdf; ComponentLink3Description: Package Specification; ComponentLink3URL: http://www.ti.com/litv/pdf/mpds018i; ComponentLink4Description: URL Link1; ComponentLink4URL: Samples URL:http://www.ti.com/product/tps79025#samples
footprint TI-DBV5_N (SOT23, 5-Leads, Body 2.9x1.6mm, Pitch 0.95mm, IPC Medium Density)
footprint TI-DBV5_L (SOT23, 5-Leads, Body 2.9x1.6mm, Pitch 0.95mm, IPC High Density)
footprint TI-DBV5_M (SOT23, 5-Leads, Body 2.9x1.6mm, Pitch 0.95mm, IPC Low Density)
pins: 1 IN (power) "The IN terminal is the input to the device.", 2 GND (power) "Regulator ground", 3 ~{EN} (in) "The E\N\ terminal is an input which enables or shuts down the device. When E\N\ is a logic high, the device will be in shutdown mode. When E\N\ is a logic low, the device will be enabled.", 4 BYPASS "An external bypass capacitor, connected to this terminal, in conjunction with an internal resistor, creates a low-pass filter to further reduce regulator noise.", 5 OUT (power) "The OUT terminal is the regulated output of the device."

## TPS79025DBVRG4
designator U?
Single Output Low Noise LDO, 50 mA, Fixed 2.5 V Output, 2.7 to 10 V Input, with Low IQ, 5-pin SOT-23 (DBV), -40 to 125 degC, Green (RoHS & no Sb/Br); Manufacturer: Texas Instruments; PartNumber: TPS79025DBVRG4; Fixed Output Options(V): 2.5; Iout(Max)(A): 0.05; Iq(Typ)(mA): 0.02; Rating: Catalog; SubFamily: Single Channel LDO; Vdo(Typ)(mV): 57; Vin(Max)(V): 10; Vin(Min)(V): 2.7; DatasheetVersion: SLVS299B; PackageVersion: 4073253-4/K; PackageReference: DBV5; PackageDescription: 5-Pin Plastic Small Outline, Body 1.60 × 2.90 mm, Pitch 0.95 mm; Supplier 1: Digi-Key; Supplier Part Number 1: TPS79025DBVRG4-ND; Supplier 2: Newark; Supplier Part Number 2: 71J8286; Supplier 3: Mouser; Supplier Part Number 3: 595-TPS79025DBVRG4; Eco-Plan: Green (RoHS & no Sb/Br); Vout Adj(Max)(V): 2.5; Vout Adj(Min)(V): 2.5; Mounting Technology: Surface Mount; Code_JEDEC: MO-178; ComponentLink1Description: Manufacturer URL; ComponentLink1URL: http://www.ti.com/; ComponentLink2Description: Datasheet; ComponentLink2URL: http://www.ti.com/general/docs/lit/getliterature.tsp?genericPartNumber=TPS79025&fileType=pdf; ComponentLink3Description: Package Specification; ComponentLink3URL: http://www.ti.com/litv/pdf/mpds018i; ComponentLink4Description: URL Link1; ComponentLink4URL: Samples URL:http://www.ti.com/product/tps79025#samples
footprint TI-DBV5_N (SOT23, 5-Leads, Body 2.9x1.6mm, Pitch 0.95mm, IPC Medium Density)
footprint TI-DBV5_L (SOT23, 5-Leads, Body 2.9x1.6mm, Pitch 0.95mm, IPC High Density)
footprint TI-DBV5_M (SOT23, 5-Leads, Body 2.9x1.6mm, Pitch 0.95mm, IPC Low Density)
pins: 1 IN (power) "The IN terminal is the input to the device.", 2 GND (power) "Regulator ground", 3 ~{EN} (in) "The E\N\ terminal is an input which enables or shuts down the device. When E\N\ is a logic high, the device will be in shutdown mode. When E\N\ is a logic low, the device will be enabled.", 4 BYPASS "An external bypass capacitor, connected to this terminal, in conjunction with an internal resistor, creates a low-pass filter to further reduce regulator noise.", 5 OUT (power) "The OUT terminal is the regulated output of the device."

## TPS79025DBVT
designator U?
Single Output Low Noise LDO, 50 mA, Fixed 2.5 V Output, 2.7 to 10 V Input, with Low IQ, 5-pin SOT-23 (DBV), -40 to 125 degC, Green (RoHS & no Sb/Br); Manufacturer: Texas Instruments; PartNumber: TPS79025DBVT; Fixed Output Options(V): 2.5; Iout(Max)(A): 0.05; Iq(Typ)(mA): 0.02; Rating: Catalog; SubFamily: Single Channel LDO; Vdo(Typ)(mV): 57; Vin(Max)(V): 10; Vin(Min)(V): 2.7; DatasheetVersion: SLVS299B; PackageVersion: 4073253-4/K; PackageReference: DBV5; PackageDescription: 5-Pin Plastic Small Outline, Body 1.60 × 2.90 mm, Pitch 0.95 mm; Supplier 1: Digi-Key; Supplier Part Number 1: 296-32575-2-ND; Supplier 2: Digi-Key; Supplier Part Number 2: 296-32575-1-ND; Supplier 3: Digi-Key; Supplier Part Number 3: 296-32575-6-ND; Supplier 4: Newark; Supplier Part Number 4: 77C1337; Supplier 5: Mouser; Supplier Part Number 5: 595-TPS79025DBVT; Eco-Plan: Green (RoHS & no Sb/Br); Vout Adj(Max)(V): 2.5; Vout Adj(Min)(V): 2.5; Mounting Technology: Surface Mount; Code_JEDEC: MO-178; ComponentLink1Description: Manufacturer URL; ComponentLink1URL: http://www.ti.com/; ComponentLink2Description: Datasheet; ComponentLink2URL: http://www.ti.com/general/docs/lit/getliterature.tsp?genericPartNumber=TPS79025&fileType=pdf; ComponentLink3Description: Package Specification; ComponentLink3URL: http://www.ti.com/litv/pdf/mpds018i; ComponentLink4Description: URL Link1; ComponentLink4URL: Samples URL:http://www.ti.com/product/tps79025#samples
footprint TI-DBV5_N (SOT23, 5-Leads, Body 2.9x1.6mm, Pitch 0.95mm, IPC Medium Density)
footprint TI-DBV5_L (SOT23, 5-Leads, Body 2.9x1.6mm, Pitch 0.95mm, IPC High Density)
footprint TI-DBV5_M (SOT23, 5-Leads, Body 2.9x1.6mm, Pitch 0.95mm, IPC Low Density)
pins: 1 IN (power) "The IN terminal is the input to the device.", 2 GND (power) "Regulator ground", 3 ~{EN} (in) "The E\N\ terminal is an input which enables or shuts down the device. When E\N\ is a logic high, the device will be in shutdown mode. When E\N\ is a logic low, the device will be enabled.", 4 BYPASS "An external bypass capacitor, connected to this terminal, in conjunction with an internal resistor, creates a low-pass filter to further reduce regulator noise.", 5 OUT (power) "The OUT terminal is the regulated output of the device."

## TPS79025DBVTG4
designator U?
Single Output Low Noise LDO, 50 mA, Fixed 2.5 V Output, 2.7 to 10 V Input, with Low IQ, 5-pin SOT-23 (DBV), -40 to 125 degC, Green (RoHS & no Sb/Br); Manufacturer: Texas Instruments; PartNumber: TPS79025DBVTG4; Fixed Output Options(V): 2.5; Iout(Max)(A): 0.05; Iq(Typ)(mA): 0.02; Rating: Catalog; SubFamily: Single Channel LDO; Vdo(Typ)(mV): 57; Vin(Max)(V): 10; Vin(Min)(V): 2.7; DatasheetVersion: SLVS299B; PackageVersion: 4073253-4/K; PackageReference: DBV5; PackageDescription: 5-Pin Plastic Small Outline, Body 1.60 × 2.90 mm, Pitch 0.95 mm; Supplier 1: Digi-Key; Supplier Part Number 1: TPS79025DBVTG4-ND; Supplier 2: Mouser; Supplier Part Number 2: 595-TPS79025DBVTG4; Eco-Plan: Green (RoHS & no Sb/Br); Vout Adj(Max)(V): 2.5; Vout Adj(Min)(V): 2.5; Mounting Technology: Surface Mount; Code_JEDEC: MO-178; ComponentLink1Description: Manufacturer URL; ComponentLink1URL: http://www.ti.com/; ComponentLink2Description: Datasheet; ComponentLink2URL: http://www.ti.com/general/docs/lit/getliterature.tsp?genericPartNumber=TPS79025&fileType=pdf; ComponentLink3Description: Package Specification; ComponentLink3URL: http://www.ti.com/litv/pdf/mpds018i; ComponentLink4Description: URL Link1; ComponentLink4URL: Samples URL:http://www.ti.com/product/tps79025#samples
footprint TI-DBV5_N (SOT23, 5-Leads, Body 2.9x1.6mm, Pitch 0.95mm, IPC Medium Density)
footprint TI-DBV5_L (SOT23, 5-Leads, Body 2.9x1.6mm, Pitch 0.95mm, IPC High Density)
footprint TI-DBV5_M (SOT23, 5-Leads, Body 2.9x1.6mm, Pitch 0.95mm, IPC Low Density)
pins: 1 IN (power) "The IN terminal is the input to the device.", 2 GND (power) "Regulator ground", 3 ~{EN} (in) "The E\N\ terminal is an input which enables or shuts down the device. When E\N\ is a logic high, the device will be in shutdown mode. When E\N\ is a logic low, the device will be enabled.", 4 BYPASS "An external bypass capacitor, connected to this terminal, in conjunction with an internal resistor, creates a low-pass filter to further reduce regulator noise.", 5 OUT (power) "The OUT terminal is the regulated output of the device."

## TPS79028DBVR
designator U?
Single Output Low Noise LDO, 50 mA, Fixed 2.8 V Output, 2.7 to 10 V Input, with Low IQ, 5-pin SOT-23 (DBV), -40 to 125 degC, Green (RoHS & no Sb/Br); Manufacturer: Texas Instruments; PartNumber: TPS79028DBVR; Fixed Output Options(V): 2.8; Iout(Max)(A): 0.05; Iq(Typ)(mA): 0.02; Rating: Catalog; SubFamily: Single Channel LDO; Vdo(Typ)(mV): 60; Vin(Max)(V): 10; Vin(Min)(V): 2.7; DatasheetVersion: SLVS299B; PackageVersion: 4073253-4/K; PackageReference: DBV5; PackageDescription: 5-Pin Plastic Small Outline, Body 1.60 × 2.90 mm, Pitch 0.95 mm; Supplier 1: Digi-Key; Supplier Part Number 1: 296-8154-2-ND; Supplier 2: Digi-Key; Supplier Part Number 2: 296-8154-1-ND; Supplier 3: Digi-Key; Supplier Part Number 3: 296-8154-6-ND; Supplier 4: Newark; Supplier Part Number 4: 77C1338; Supplier 5: Mouser; Supplier Part Number 5: 595-TPS79028DBVR; Eco-Plan: Green (RoHS & no Sb/Br); Vout Adj(Max)(V): 2.8; Vout Adj(Min)(V): 2.8; Mounting Technology: Surface Mount; Code_JEDEC: MO-178; ComponentLink1Description: Manufacturer URL; ComponentLink1URL: http://www.ti.com/; ComponentLink2Description: Datasheet; ComponentLink2URL: http://www.ti.com/general/docs/lit/getliterature.tsp?genericPartNumber=TPS79028&fileType=pdf; ComponentLink3Description: Package Specification; ComponentLink3URL: http://www.ti.com/litv/pdf/mpds018i; ComponentLink4Description: URL Link1; ComponentLink4URL: Samples URL:http://www.ti.com/product/tps79028#samples
footprint TI-DBV5_N (SOT23, 5-Leads, Body 2.9x1.6mm, Pitch 0.95mm, IPC Medium Density)
footprint TI-DBV5_L (SOT23, 5-Leads, Body 2.9x1.6mm, Pitch 0.95mm, IPC High Density)
footprint TI-DBV5_M (SOT23, 5-Leads, Body 2.9x1.6mm, Pitch 0.95mm, IPC Low Density)
pins: 1 IN (power) "The IN terminal is the input to the device.", 2 GND (power) "Regulator ground", 3 ~{EN} (in) "The E\N\ terminal is an input which enables or shuts down the device. When E\N\ is a logic high, the device will be in shutdown mode. When E\N\ is a logic low, the device will be enabled.", 4 BYPASS "An external bypass capacitor, connected to this terminal, in conjunction with an internal resistor, creates a low-pass filter to further reduce regulator noise.", 5 OUT (power) "The OUT terminal is the regulated output of the device."

## TPS79028DBVRG4
designator U?
Single Output Low Noise LDO, 50 mA, Fixed 2.8 V Output, 2.7 to 10 V Input, with Low IQ, 5-pin SOT-23 (DBV), -40 to 125 degC, Green (RoHS & no Sb/Br); Manufacturer: Texas Instruments; PartNumber: TPS79028DBVRG4; Fixed Output Options(V): 2.8; Iout(Max)(A): 0.05; Iq(Typ)(mA): 0.02; Rating: Catalog; SubFamily: Single Channel LDO; Vdo(Typ)(mV): 60; Vin(Max)(V): 10; Vin(Min)(V): 2.7; DatasheetVersion: SLVS299B; PackageVersion: 4073253-4/K; PackageReference: DBV5; PackageDescription: 5-Pin Plastic Small Outline, Body 1.60 × 2.90 mm, Pitch 0.95 mm; Supplier 1: Digi-Key; Supplier Part Number 1: TPS79028DBVRG4-ND; Supplier 2: Mouser; Supplier Part Number 2: 595-TPS79028DBVRG4; Eco-Plan: Green (RoHS & no Sb/Br); Vout Adj(Max)(V): 2.8; Vout Adj(Min)(V): 2.8; Mounting Technology: Surface Mount; Code_JEDEC: MO-178; ComponentLink1Description: Manufacturer URL; ComponentLink1URL: http://www.ti.com/; ComponentLink2Description: Datasheet; ComponentLink2URL: http://www.ti.com/general/docs/lit/getliterature.tsp?genericPartNumber=TPS79028&fileType=pdf; ComponentLink3Description: Package Specification; ComponentLink3URL: http://www.ti.com/litv/pdf/mpds018i; ComponentLink4Description: URL Link1; ComponentLink4URL: Samples URL:http://www.ti.com/product/tps79028#samples
footprint TI-DBV5_N (SOT23, 5-Leads, Body 2.9x1.6mm, Pitch 0.95mm, IPC Medium Density)
footprint TI-DBV5_L (SOT23, 5-Leads, Body 2.9x1.6mm, Pitch 0.95mm, IPC High Density)
footprint TI-DBV5_M (SOT23, 5-Leads, Body 2.9x1.6mm, Pitch 0.95mm, IPC Low Density)
pins: 1 IN (power) "The IN terminal is the input to the device.", 2 GND (power) "Regulator ground", 3 ~{EN} (in) "The E\N\ terminal is an input which enables or shuts down the device. When E\N\ is a logic high, the device will be in shutdown mode. When E\N\ is a logic low, the device will be enabled.", 4 BYPASS "An external bypass capacitor, connected to this terminal, in conjunction with an internal resistor, creates a low-pass filter to further reduce regulator noise.", 5 OUT (power) "The OUT terminal is the regulated output of the device."

## TPS79028DBVT
designator U?
Single Output Low Noise LDO, 50 mA, Fixed 2.8 V Output, 2.7 to 10 V Input, with Low IQ, 5-pin SOT-23 (DBV), -40 to 125 degC, Green (RoHS & no Sb/Br); Manufacturer: Texas Instruments; PartNumber: TPS79028DBVT; Fixed Output Options(V): 2.8; Iout(Max)(A): 0.05; Iq(Typ)(mA): 0.02; Rating: Catalog; SubFamily: Single Channel LDO; Vdo(Typ)(mV): 60; Vin(Max)(V): 10; Vin(Min)(V): 2.7; DatasheetVersion: SLVS299B; PackageVersion: 4073253-4/K; PackageReference: DBV5; PackageDescription: 5-Pin Plastic Small Outline, Body 1.60 × 2.90 mm, Pitch 0.95 mm; Supplier 1: Digi-Key; Supplier Part Number 1: 296-32576-2-ND; Supplier 2: Digi-Key; Supplier Part Number 2: 296-32576-1-ND; Supplier 3: Digi-Key; Supplier Part Number 3: 296-32576-6-ND; Supplier 4: Mouser; Supplier Part Number 4: 595-TPS79028DBVT; Eco-Plan: Green (RoHS & no Sb/Br); Vout Adj(Max)(V): 2.8; Vout Adj(Min)(V): 2.8; Mounting Technology: Surface Mount; Code_JEDEC: MO-178; ComponentLink1Description: Manufacturer URL; ComponentLink1URL: http://www.ti.com/; ComponentLink2Description: Datasheet; ComponentLink2URL: http://www.ti.com/general/docs/lit/getliterature.tsp?genericPartNumber=TPS79028&fileType=pdf; ComponentLink3Description: Package Specification; ComponentLink3URL: http://www.ti.com/litv/pdf/mpds018i; ComponentLink4Description: URL Link1; ComponentLink4URL: Samples URL:http://www.ti.com/product/tps79028#samples
footprint TI-DBV5_N (SOT23, 5-Leads, Body 2.9x1.6mm, Pitch 0.95mm, IPC Medium Density)
footprint TI-DBV5_L (SOT23, 5-Leads, Body 2.9x1.6mm, Pitch 0.95mm, IPC High Density)
footprint TI-DBV5_M (SOT23, 5-Leads, Body 2.9x1.6mm, Pitch 0.95mm, IPC Low Density)
pins: 1 IN (power) "The IN terminal is the input to the device.", 2 GND (power) "Regulator ground", 3 ~{EN} (in) "The E\N\ terminal is an input which enables or shuts down the device. When E\N\ is a logic high, the device will be in shutdown mode. When E\N\ is a logic low, the device will be enabled.", 4 BYPASS "An external bypass capacitor, connected to this terminal, in conjunction with an internal resistor, creates a low-pass filter to further reduce regulator noise.", 5 OUT (power) "The OUT terminal is the regulated output of the device."